# Altium footprint library iRat_2.0.PcbLib: 20 footprints (part 2 of 2)
Each footprint in its own frame and in the unit in brackets; x right, y up, seen from the top. Pads: shape width x height; smd on the part's side, far side on the other; paste and mask are expansions set on the pad; w line width, h text height; cw(c..) or ccw(c..) is an arc to the next point about the centre after c.
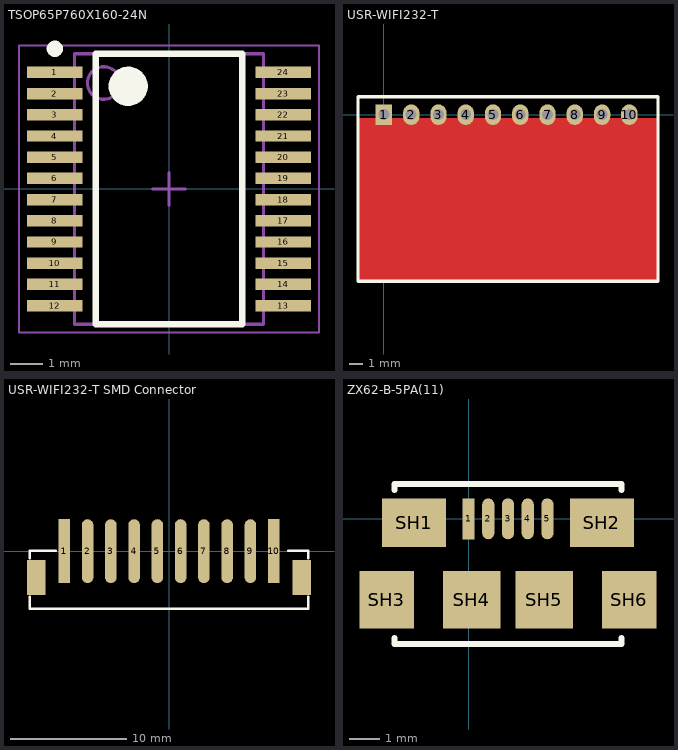
[diagram p1: the footprints below, top view; thin cyan lines are the x and y axes]

## TSOP65P760X160-24N [mm] "TSOP, 24-Leads, Body 7.95x5.60mm, Pitch 0.65mm, IPC Medium Density"
height 1.6
pads (24):
  rect 1.7x0.35 smd: 1(-3.5,3.575) 2(-3.5,2.925) 3(-3.5,2.275) 4(-3.5,1.625) 5(-3.5,0.975) 6(-3.5,0.325) 7(-3.5,-0.325) 8(-3.5,-0.975) 9(-3.5,-1.625) 10(-3.5,-2.275) 11(-3.5,-2.925) 12(-3.5,-3.575) 13(3.5,-3.575) 14(3.5,-2.925) 15(3.5,-2.275) 16(3.5,-1.625) 17(3.5,-0.975) 18(3.5,-0.325) 19(3.5,0.325) 20(3.5,0.975) 21(3.5,1.625) 22(3.5,2.275) 23(3.5,2.925) 24(3.5,3.575)
Top Overlay:
  circle w0.6: c-1.25,3.15 r0.3
  circle w0.25: c-3.5,4.3 r0.125
  lines w0.2: -2.25,-4.15 2.25,-4.15 2.25,4.15 -2.25,4.15 -2.25,-4.15
Mechanical 13:
  circle w0.1: c-2,3.25 r0.5
  lines w0.1: -2.9,-4.15 2.9,-4.15 2.9,4.15 -2.9,4.15 -2.9,-4.15
Mechanical 15:
  lines w0.05: -4.6,-4.4 4.6,-4.4 4.6,4.4 -4.6,4.4 -4.6,-4.4
  lines w0.1: -0.5,0 0.5,0 ; 0,-0.5 0,0.5
3D body: height 1.6, standoff 0.05, extent -2.9,-4.15 2.9,4.15

## USR-WIFI232-T [mm] "Wifi Module"
pads (10):
  rect 1.2x1.5 hole 0.8: 1(0,0)
  oval 1.2x1.5 hole 0.8: 2(2,0) 3(4,0) 4(6,0) 5(8,0) 6(10,0) 7(12,0) 8(14,0) 9(16,0) 10(18,0)
Top Layer:
  pour cut-out: -1.9,-0.254 20.1,-0.254 20.1,-12.2 -1.9,-12.2
Top Overlay:
  lines w0.254: -1.9,-12.2 20.1,-12.2 20.1,1.3 -1.9,1.3 -1.9,-12.2
  text "." at -0.127,-1.905 h1.52

## USR-WIFI232-T SMD Connector [mm]
pads (12):
  rect 1x5.5 smd: 1(-9,0) 10(9,0)
  oval 1x5.5 smd: 2(-7,0) 3(-5,0) 4(-3,0) 5(-1,0) 6(1,0) 7(3,0) 8(5,0) 9(7,0)
  rect 1.6x3 smd: ""(-11.4,-2.25) ""(11.4,-2.25)
Top Overlay:
  lines w0.2: -11.975,-3.9 -11.975,-4.953 11.975,-4.953 11.975,-3.9 ; -11.975,-0.598 -11.975,0.047 -10.24,0.047 -9.732,0.047 ; 10.24,0.047 11.975,0.047 11.975,-0.598

## ZX62-B-5PA(11) [mm] "Micro"
pads (11):
  rect 0.4x1.35 smd: 1(0,0)
  oval 0.4x1.35 smd: 2(0.65,0) 3(1.3,0) 4(1.95,0) 5(2.6,0)
  rect 2.1x1.6 smd: SH1(-1.8,-0.125) SH2(4.4,-0.125)
  rect 1.8x1.9 smd: SH3(-2.7,-2.675) SH6(5.3,-2.675)
  rect 1.9x1.9 smd: SH4(0.1,-2.675) SH5(2.5,-2.675)
Top Overlay:
  lines w0.2: -2.45,-3.937 -2.45,-4.125 5.05,-4.125 5.05,-3.937 ; -2.45,0.955 -2.45,1.143 5.05,1.143 5.05,0.955